# Altium footprint library HDR_fszhang.PcbLib: 116 footprints (part 2 of 8)
Each footprint in its own frame and in the unit in brackets; x right, y up, seen from the top. Pads: shape width x height; smd on the part's side, far side on the other; paste and mask are expansions set on the pad; w line width, h text height; cw(c..) or ccw(c..) is an arc to the next point about the centre after c.
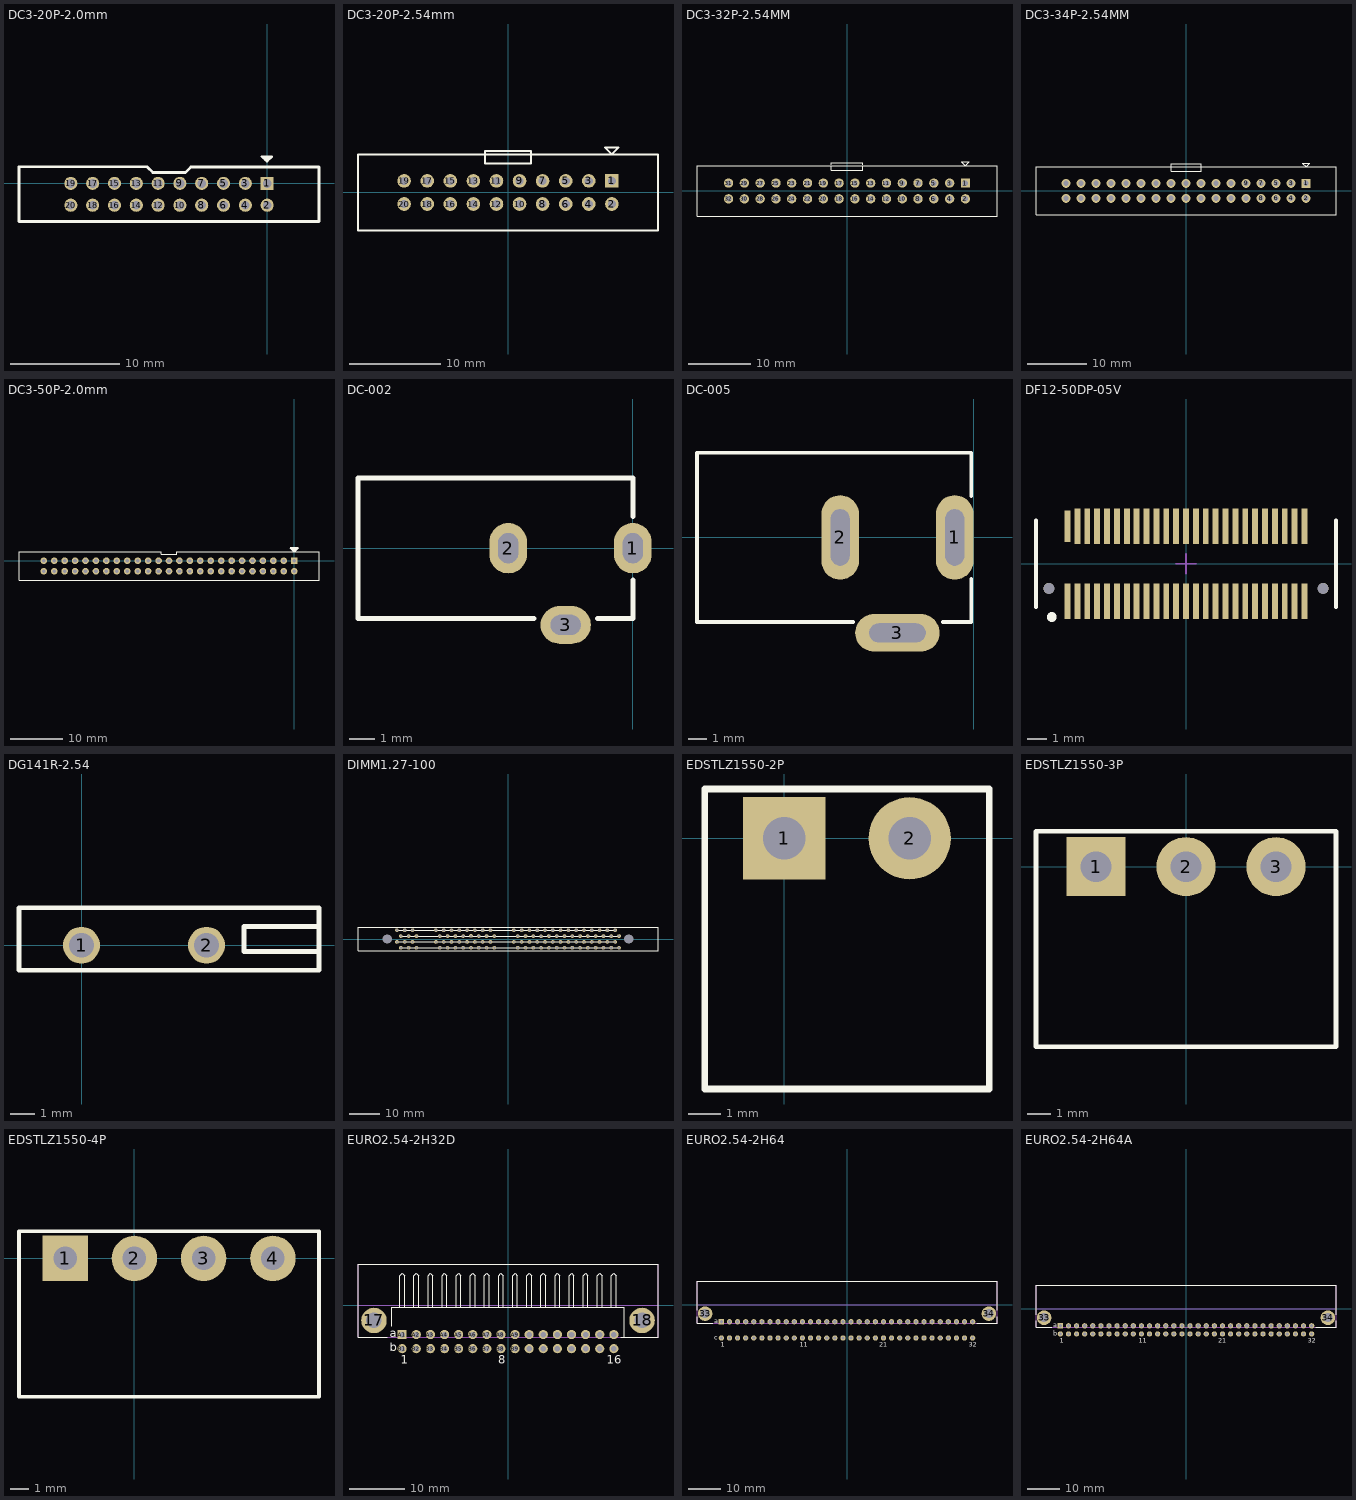
[diagram p1: the footprints below, top view; thin cyan lines are the x and y axes]

## DC3-20P-2.0mm [mm] "简易牛角座直"
pads (20):
  rect 1.2x1.2 hole 0.8: 1(-0.003,-0.008)
  round 1.2 hole 0.8: 2(-0.003,-2.008) 3(-2.003,-0.008) 4(-2.003,-2.008) 5(-4.003,-0.008) 6(-4.003,-2.008) 7(-6.003,-0.008) 8(-6.003,-2.008) 9(-8.003,-0.008) 10(-8.003,-2.008) 11(-10.003,-0.008) 12(-10.003,-2.008) 13(-12.003,-0.008) 14(-12.003,-2.008) 15(-14.003,-0.008) 16(-14.003,-2.008) 17(-16.003,-0.008) 18(-16.003,-2.008) 19(-18.003,-0.008) 20(-18.003,-2.008)
Top Overlay:
  lines w0.2: -0.315,2.279 0.231,2.279 0.245,2.266 -0.109,2.266 -0.205,2.169 -0.205,2.24 0.022,2.467 0.022,2.042 -0.003,2.017 ; -0.003,2.017 0.447,2.467 -0.303,2.467 -0.503,2.467 -0.053,2.017 -0.003,2.017
  lines w0.254: -22.753,1.492 -22.753,-3.508 4.747,-3.508 4.747,1.492 -7.003,1.492 -7.495,1.001 -10.487,1.001 -11.003,1.517 -22.753,1.517

## DC3-20P-2.54mm [mm] "简易牛角座直"
height 7
pads (20):
  rect 1.5x1.5 hole 0.9: 1(11.43,1.27)
  round 1.5 hole 0.9: 2(11.43,-1.27) 3(8.89,1.27) 4(8.89,-1.27) 5(6.35,1.27) 6(6.35,-1.27) 7(3.81,1.27) 8(3.81,-1.27) 9(1.27,1.27) 10(1.27,-1.27) 11(-1.27,1.27) 12(-1.27,-1.27) 13(-3.81,1.27) 14(-3.81,-1.27) 15(-6.35,1.27) 16(-6.35,-1.27) 17(-8.89,1.27) 18(-8.89,-1.27) 19(-11.43,1.27) 20(-11.43,-1.27)
Top Overlay:
  lines w0.2: -16.51,-4.191 -16.51,4.191 16.51,4.191 16.51,-4.191 -16.51,-4.191 ; -2.54,3.175 2.54,3.175 2.54,4.191 2.54,4.572 -2.54,4.572 -2.54,4.191 -2.54,3.175 ; 10.668,4.953 11.43,4.191 12.192,4.953 10.668,4.953

## DC3-32P-2.54MM [mm] "2.54简易牛角座"
height 1.2
pads (32):
  rect 1.5x1.5 hole 0.9: 1(19.05,1.27)
  round 1.5 hole 0.9: 2(19.05,-1.27) 3(16.51,1.27) 4(16.51,-1.27) 5(13.97,1.27) 6(13.97,-1.27) 7(11.43,1.27) 8(11.43,-1.27) 9(8.89,1.27) 10(8.89,-1.27) 11(6.35,1.27) 12(6.35,-1.27) 13(3.81,1.27) 14(3.81,-1.27) 15(1.27,1.27) 16(1.27,-1.27) 17(-1.27,1.27) 18(-1.27,-1.27) 19(-3.81,1.27) 20(-3.81,-1.27) 21(-6.35,1.27) 22(-6.35,-1.27) 23(-8.89,1.27) 24(-8.89,-1.27) 25(-11.43,1.27) 26(-11.43,-1.27) 27(-13.97,1.27) 28(-13.97,-1.27) 29(-16.51,1.27) 30(-16.51,-1.27) 31(-19.05,1.27) 32(-19.05,-1.27)
Top Overlay:
  lines w0.2: -2.54,4.064 -2.54,3.302 2.54,3.302 2.54,4.064 ; -2.54,4.191 -2.54,4.572 2.54,4.572 2.54,4.191 ; -24.13,-4.064 -24.13,4.064 24.13,4.064 24.13,-4.064 -24.13,-4.064 ; 18.415,4.699 19.558,4.699 19.685,4.699 19.05,4.064 18.415,4.699

## DC3-34P-2.54MM [mm] "2.54简易牛角座"
height 1.2
pads (34):
  rect 1.5x1.5 hole 0.9: 1(20.32,1.27)
  round 1.5 hole 0.9: 2(20.32,-1.27) 3(17.78,1.27) 4(17.78,-1.27) 5(15.24,1.27) 6(15.24,-1.27) 7(12.7,1.27) 8(12.7,-1.27) 9(10.16,1.27) 10(10.16,-1.27) 11(7.62,1.27) 12(7.62,-1.27) 13(5.08,1.27) 14(5.08,-1.27) 15(2.54,1.27) 16(2.54,-1.27) 17(0,1.27) 18(0,-1.27) 19(-2.54,1.27) 20(-2.54,-1.27) 21(-5.08,1.27) 22(-5.08,-1.27) 23(-7.62,1.27) 24(-7.62,-1.27) 25(-10.16,1.27) 26(-10.16,-1.27) 27(-12.7,1.27) 28(-12.7,-1.27) 29(-15.24,1.27) 30(-15.24,-1.27) 31(-17.78,1.27) 32(-17.78,-1.27) 33(-20.32,1.27) 34(-20.32,-1.27)
Top Overlay:
  lines w0.2: -2.54,3.81 -2.54,4.572 2.54,4.572 2.54,3.81 ; -2.54,4.064 -2.54,3.302 2.54,3.302 2.54,4.064 ; -25.4,-4.064 25.4,-4.064 25.4,4.064 -25.4,4.064 -25.4,-4.064 ; 19.685,4.699 20.32,4.064 20.955,4.699 20.828,4.699 19.685,4.699

## DC3-50P-2.0mm [mm] "简易牛角座直"
height 7
pads (50):
  rect 1.27x1.27 hole 0.711: 1(0,0)
  round 1.27 hole 0.711: 2(0,-2) 3(-2,0) 4(-2,-2) 5(-4,0) 6(-4,-2) 7(-6,0) 8(-6,-2) 9(-8,0) 10(-8,-2) 11(-10,0) 12(-10,-2) 13(-12,0) 14(-12,-2) 15(-14,0) 16(-14,-2) 17(-16,0) 18(-16,-2) 19(-18,0) 20(-18,-2) 21(-20,0) 22(-20,-2) 23(-22,0) 24(-22,-2) 25(-24,0) 26(-24,-2) 27(-26,0) 28(-26,-2) 29(-28,0) 30(-28,-2) 31(-30,0) 32(-30,-2) 33(-32,0) 34(-32,-2) 35(-34,0) 36(-34,-2) 37(-36,0) 38(-36,-2) 39(-38,0) 40(-38,-2) 41(-40,0) 42(-40,-2) 43(-42,0) 44(-42,-2) 45(-44,0) 46(-44,-2) 47(-46,0) 48(-46,-2) 49(-48,0) 50(-48,-2)
Top Overlay:
  lines w0.178: -52.75,-3.75 -52.75,1.75 -25.5,1.75 -25.5,1.25 -22.5,1.25 -22.5,1.75 4.75,1.75 4.75,-3.75 -52.75,-3.75
  lines w0.25: -0.25,2.25 0.25,2.25 0,2 ; -0.25,2.25 0,2 ; -0.25,2.25 -0.5,2.5 0.5,2.5 0,2 ; 0,1.75 0.75,2.5 -0.75,2.5 0,1.75 ; 0,1.75 0,2
Bottom Overlay:
  text "1" at 0,1.016 h0.64
  text "2" at 0,-3.556 h0.64
  text "9" at -8.128,1.016 h0.64
  text "10" at -8.128,-4.064 h0.64
  text "19" at -18.288,1.016 h0.64
  text "20" at -18.288,-4.064 h0.64
  text "29" at -27.94,1.016 h0.64
  text "30" at -27.94,-4.064 h0.64
  text "39" at -38.1,1.016 h0.64
  text "40" at -38.1,-4.064 h0.64
  text "49" at -48.26,1.016 h0.64
  text "50" at -48.26,-4.064 h0.64

## DC-002 [mm] "DC电源插座"
height 7.2
pads (3):
  oval 1.5x2 hole 0.8 slot 1.2 at 90 deg: 1(0,0) 2(-4.953,0)
  oval 2x1.5 hole 0.8 slot 1.2 at 0 deg: 3(-2.667,-3.048)
Top Overlay:
  lines w0.2: -3.937,-2.794 -10.922,-2.794 -10.922,2.794 0,2.794 0,1.27 ; -1.397,-2.794 0,-2.794 0,-1.27
3D body: height 7.2, standoff 0, extent -10.922,-2.794 0,2.794

## DC-005 [mm] "DC电源插座"
height 12.75
pads (3):
  oval 2x4.5 hole 1 slot 3 at 90 deg: 1(-1.016,0) 2(-7.112,0)
  oval 4.5x2 hole 1 slot 3 at 0 deg: 3(-4.064,-5.08)
Top Overlay:
  lines w0.2: -6.432,-4.5 -14.732,-4.5 -14.732,4.5 -0.132,4.5 -0.132,2.2 ; -1.651,-4.5 -0.132,-4.5 -0.132,-2.2
3D body: height 11.02, standoff -3.48, extent -14.588,-5.007 -0.762,4.499

## DF12-50DP-05V [mil] "B2B_0.5MM"
height 118.11
pads (52):
  rect 11.8x70.9 smd: 1(-236.2,-74.8) 3(-216.5,-74.8) 4(-216.5,74.8) 5(-196.9,-74.8) 6(-196.9,74.8) 7(-177.2,-74.8) 8(-177.2,74.8) 9(-157.5,-74.8) 10(-157.5,74.8) 11(-137.8,-74.8) 12(-137.8,74.8) 13(-118.1,-74.8) 14(-118.1,74.8) 15(-98.4,-74.8) 16(-98.4,74.8) 17(-78.7,-74.8) 18(-78.7,74.8) 19(-59.1,-74.8) 20(-59.1,74.8) 21(-39.4,-74.8) 22(-39.4,74.8) 23(-19.7,-74.8) 24(-19.7,74.8) 25(0,-74.8) 26(0,74.8) 27(19.7,-74.8) 28(19.7,74.8) 29(39.4,-74.8) 30(39.4,74.8) 31(59.1,-74.8) 32(59.1,74.8) 33(78.7,-74.8) 34(78.7,74.8) 35(98.4,-74.8) 36(98.4,74.8) 37(118.1,-74.8) 38(118.1,74.8) 39(137.8,-74.8) 40(137.8,74.8) 41(157.5,-74.8) 42(157.5,74.8) 43(177.2,-74.8) 44(177.2,74.8) 45(196.9,-74.8) 46(196.9,74.8) 47(216.5,-74.8) 48(216.5,74.8) 49(236.2,-74.8) 50(236.2,74.8)
  rect 11.8x62.99 smd: 2(-236.2,74.8)
  round 21.7 hole 21.7: " "(-273.6,-49.2) " "(273.6,-49.2)
Top Overlay:
  circle w9.8: c-267.7,-106.3 r4.9
  lines w7.9: -299.2,-86.6 -299.2,86.6 ; 299.2,-86.6 299.2,86.6
Mechanical 15:
  lines w3.94: -19.69,0 19.68,0 ; 0,-19.68 0,19.69

## DG141R-2.54 [mm] "接线端子"
pads (2):
  round 1.5 hole 1: 1(0,0) 2(5.08,0)
Top Overlay:
  lines w0.2: 9.652,-0.254 6.604,-0.254 6.604,0.762 9.652,0.762 ; -2.54,-1.016 9.652,-1.016 9.652,1.524 -2.54,1.524 -2.54,-1.016

## DIMM1.27-100 [mm]
height 5
pads (102):
  round 1.2 hole 0.7: 1(-36.195,-0.953) 2(-34.925,-2.857) 3(-33.655,-0.953) 4(-32.385,-2.857) 5(-31.115,-0.953) 6(-29.845,-2.857) 7(-23.495,-0.953) 8(-22.225,-2.857) 9(-20.955,-0.953) 10(-19.685,-2.857) 11(-18.415,-0.953) 12(-17.145,-2.857) 13(-15.875,-0.953) 14(-14.605,-2.857) 15(-13.335,-0.953) 16(-12.065,-2.857) 17(-10.795,-0.953) 18(-9.525,-2.857) 19(-8.255,-0.953) 20(-6.985,-2.857) 21(-5.715,-0.953) 22(-4.445,-2.857) 23(1.905,-0.953) 24(3.175,-2.857) 25(4.445,-0.953) 26(5.715,-2.857) 27(6.985,-0.953) 28(8.255,-2.857) 29(9.525,-0.953) 30(10.795,-2.857) 31(12.065,-0.953) 32(13.335,-2.857) 33(14.605,-0.953) 34(15.875,-2.857) 35(17.145,-0.953) 36(18.415,-2.857) 37(19.685,-0.953) 38(20.955,-2.857) 39(22.225,-0.953) 40(23.495,-2.857) 41(24.765,-0.953) 42(26.035,-2.857) 43(27.305,-0.953) 44(28.575,-2.857) 45(29.845,-0.953) 46(31.115,-2.857) 47(32.385,-0.953) 48(33.655,-2.857) 49(34.925,-0.953) 50(36.195,-2.857) 51(-36.195,2.857) 52(-34.925,0.953) 53(-33.655,2.857) 54(-32.385,0.953) 55(-31.115,2.857) 56(-29.845,0.953) 57(-23.495,2.857) 58(-22.225,0.953) 59(-20.955,2.857) 60(-19.685,0.953) 61(-18.415,2.857) 62(-17.145,0.953) 63(-15.875,2.857) 64(-14.605,0.953) 65(-13.335,2.857) 66(-12.065,1.016) 67(-10.795,2.857) 68(-9.525,0.953) 69(-8.255,2.857) 70(-6.985,0.953) 71(-5.715,2.857) 72(-4.445,0.953) 73(1.905,2.857) 74(3.175,0.953) 75(4.445,2.857) 76(5.715,0.953) 77(6.985,2.857) 78(8.255,0.953) 79(9.525,2.857) 80(10.795,0.889) 81(12.065,2.857) 82(13.335,0.953) 83(14.605,2.857) 84(15.875,0.953) 85(17.145,2.857) 86(18.415,0.953) 87(19.685,2.857) 88(20.955,0.953) 89(22.225,2.857) 90(23.495,0.953) 91(24.765,2.857) 92(26.035,0.953) 93(27.305,2.857) 94(28.575,0.953) 95(29.845,2.857) 96(31.115,0.953) 97(32.385,2.857) 98(33.655,0.953) 99(34.925,2.857) 100(36.195,0.953)
  round 1.5 hole 3: 101(-39.37,0) 102(39.37,0)
Top Overlay:
  lines w0.2: -36.195,-0.953 34.925,-0.953 ; -36.195,2.857 34.925,2.857 ; -34.925,-2.857 36.195,-2.857 ; -34.925,0.953 36.195,0.953 ; -48.895,-3.81 48.895,-3.81 48.895,3.81 -48.895,3.81 -48.895,-3.81

## EDSTLZ1550-2P [mm] "3.81mm接插件"
height 7
pads (2):
  rect 2.5x2.5 hole 1.3: 1(0,0)
  round 2.5 hole 1.3: 2(3.81,0)
Top Overlay:
  lines w0.2: -2.413,-7.62 6.223,-7.62 6.223,1.5 -2.413,1.5 -2.413,-7.62
3D body: height 5, standoff 0, extent -2.413,-7.62 6.223,1.397

## EDSTLZ1550-3P [mm] "3.81mm接插件"
height 7
pads (3):
  rect 2.5x2.5 hole 1.3: 1(-3.81,0)
  round 2.5 hole 1.3: 2(0,0) 3(3.81,0)
Top Overlay:
  lines w0.2: -6.35,-7.62 6.35,-7.62 6.35,1.5 -6.35,1.5 -6.35,-7.62
3D body: height 6, standoff 0, extent -6.35,-7.62 6.35,1.397

## EDSTLZ1550-4P [mm] "3.81mm接插件"
height 7
pads (4):
  rect 2.5x2.5 hole 1.3: 1(-3.81,0)
  round 2.5 hole 1.3: 2(0,0) 3(3.81,0) 4(7.62,0)
Top Overlay:
  lines w0.2: -6.35,-7.62 -6.35,1.5 10.16,1.5 10.16,-7.62 -6.35,-7.62
3D body: height 6, standoff 0, extent -6.35,-7.62 10.16,1.5

## EURO2.54-2H32D [mm] "Connector; DIN 41612, Type 2B, Thru-Hole; Rows a+b, 32 Position; Right Angle"
height 8.6
pads (34):
  round 4.6 hole 2.8: 17(-24.13,-2.76) 18(24.13,-2.76)
  rect 1.65x1.65 hole 1: A1(-19.05,-5.3)
  round 1.65 hole 1: A2(-16.51,-5.3) A3(-13.97,-5.3) A4(-11.43,-5.3) A5(-8.89,-5.3) A6(-6.35,-5.3) A7(-3.81,-5.3) A8(-1.27,-5.3) A9(1.27,-5.3) A10(3.81,-5.3) A11(6.35,-5.3) A12(8.89,-5.3) A13(11.43,-5.3) A14(13.97,-5.3) A15(16.51,-5.3) A16(19.05,-5.3) B1(-19.05,-7.84) B2(-16.51,-7.84) B3(-13.97,-7.84) B4(-11.43,-7.84) B5(-8.89,-7.84) B6(-6.35,-7.84) B7(-3.81,-7.84) B8(-1.27,-7.84) B9(1.27,-7.84) B10(3.81,-7.84) B11(6.35,-7.84) B12(8.89,-7.84) B13(11.43,-7.84) B14(13.97,-7.84) B15(16.51,-7.84) B16(19.05,-7.84)
Top Overlay:
  lines w0.2: -21.75,-5.8 -27,-5.8 -27,7.34 27,7.34 27,-5.8 20.275,-5.8 ; -20.955,-3.81 -20.955,-0.381 20.955,-0.381 20.955,-5.8 ; -19.473,-0.288 -19.473,5.299 -19.05,5.722 -18.627,5.299 -18.627,-0.288 ; -16.933,-0.288 -16.933,5.299 -16.51,5.722 -16.087,5.299 -16.087,-0.288 ; -14.393,-0.288 -14.393,5.299 -13.97,5.722 -13.547,5.299 -13.547,-0.288 ; -11.853,-0.288 -11.853,5.299 -11.43,5.722 -11.007,5.299 -11.007,-0.288 ; -9.313,-0.288 -9.313,5.299 -8.89,5.722 -8.467,5.299 -8.467,-0.288 ; -6.773,-0.288 -6.773,5.299 -6.35,5.722 -5.927,5.299 -5.927,-0.288 ; -4.233,-0.288 -4.233,5.299 -3.81,5.722 -3.387,5.299 -3.387,-0.288 ; -1.693,-0.288 -1.693,5.299 -1.27,5.722 -0.847,5.299 -0.847,-0.288 ; 0.847,-0.288 0.847,5.299 1.27,5.722 1.693,5.299 1.693,-0.288 ; 3.387,-0.288 3.387,5.299 3.81,5.722 4.233,5.299 4.233,-0.288 ; 5.927,-0.288 5.927,5.299 6.35,5.722 6.773,5.299 6.773,-0.288 ; 8.467,-0.288 8.467,5.299 8.89,5.722 9.313,5.299 9.313,-0.288 ; 11.007,-0.288 11.007,5.299 11.43,5.722 11.853,5.299 11.853,-0.288 ; 13.547,-0.288 13.547,5.299 13.97,5.722 14.393,5.299 14.393,-0.288 ; 16.087,-0.288 16.087,5.299 16.51,5.722 16.933,5.299 16.933,-0.288 ; 18.627,-0.288 18.627,5.299 19.05,5.722 19.473,5.299 19.473,-0.288
  text "16" at 17.8,-10.54 h1.5
  text "8" at -1.77,-10.54 h1.5
  text "b" at -21.26,-8.34 h1.5
  text "a" at -21.26,-5.8 h1.5
  text "1" at -19.3,-10.54 h1.5
Mechanical 1:
  lines w0.1: -27,0 27,0
  text "PCB Edge" at -26.15,0.5 h0.6
Mechanical 13:
  lines w0.1: -27,-5.8 27,-5.8 27,7.34 -27,7.34 -27,-5.8
3D body: height 8.6, standoff 0, extent -27,-5.8 27,7.34

## EURO2.54-2H64 [mm] "Connector; DIN 41612, Type C, Thru-Hole; Rows a+c, 64 Position; Right Angle"
height 11.1
pads (66):
  round 4.6 hole 2.8: 33(-44.45,-2.76) 34(44.45,-2.76)
  rect 1.65x1.65 hole 1: A1(-39.37,-5.3)
  round 1.65 hole 1: A2(-36.83,-5.3) A3(-34.29,-5.3) A4(-31.75,-5.3) A5(-29.21,-5.3) A6(-26.67,-5.3) A7(-24.13,-5.3) A8(-21.59,-5.3) A9(-19.05,-5.3) A10(-16.51,-5.3) A11(-13.97,-5.3) A12(-11.43,-5.3) A13(-8.89,-5.3) A14(-6.35,-5.3) A15(-3.81,-5.3) A16(-1.27,-5.3) A17(1.27,-5.3) A18(3.81,-5.3) A19(6.35,-5.3) A20(8.89,-5.3) A21(11.43,-5.3) A22(13.97,-5.3) A23(16.51,-5.3) A24(19.05,-5.3) A25(21.59,-5.3) A26(24.13,-5.3) A27(26.67,-5.3) A28(29.21,-5.3) A29(31.75,-5.3) A30(34.29,-5.3) A31(36.83,-5.3) A32(39.37,-5.3) C1(-39.37,-10.38) C2(-36.83,-10.38) C3(-34.29,-10.38) C4(-31.75,-10.38) C5(-29.21,-10.38) C6(-26.67,-10.38) C7(-24.13,-10.38) C8(-21.59,-10.38) C9(-19.05,-10.38) C10(-16.51,-10.38) C11(-13.97,-10.38) C12(-11.43,-10.38) C13(-8.89,-10.38) C14(-6.35,-10.38) C15(-3.81,-10.38) C16(-1.27,-10.38) C17(1.27,-10.38) C18(3.81,-10.38) C19(6.35,-10.38) C20(8.89,-10.38) C21(11.43,-10.38) C22(13.97,-10.38) C23(16.51,-10.38) C24(19.05,-10.38) C25(21.59,-10.38) C26(24.13,-10.38) C27(26.67,-10.38) C28(29.21,-10.38) C29(31.75,-10.38) C30(34.29,-10.38) C31(36.83,-10.38) C32(39.37,-10.38)
Top Overlay:
  lines w0.2: -47,-3.76 -47,-5.8 -42.07,-5.8 ; -47,-1.76 -47,7.34 47,7.34 47,-1.76 ; 40.595,-5.8 47,-5.8 47,-3.76
  text "21" at 10.18,-13.08 h1.5
  text "11" at -14.845,-13.08 h1.5
  text "32" at 38.12,-13.08 h1.5
  text "c" at -41.58,-10.88 h1.5
  text "a" at -41.58,-5.8 h1.5
  text "1" at -39.62,-13.08 h1.5
Mechanical 1:
  lines w0.1: -47,0 47,0
  text "PCB Edge" at -46.47,0.5 h0.6
Mechanical 13:
  lines w0.1: -47,-5.8 47,-5.8 47,7.34 -47,7.34 -47,-5.8
3D body: height 11.1, standoff 0, extent -47,-5.8 47,7.34

## EURO2.54-2H64A [mm] "Connector; DIN 41612, Type B, Thru-Hole; Rows a+b, 64 Position; Right Angle"
height 8.6
pads (66):
  round 4.6 hole 2.8: 33(-44.45,-2.76) 34(44.45,-2.76)
  rect 1.65x1.65 hole 1: A1(-39.37,-5.3)
  round 1.65 hole 1: A2(-36.83,-5.3) A3(-34.29,-5.3) A4(-31.75,-5.3) A5(-29.21,-5.3) A6(-26.67,-5.3) A7(-24.13,-5.3) A8(-21.59,-5.3) A9(-19.05,-5.3) A10(-16.51,-5.3) A11(-13.97,-5.3) A12(-11.43,-5.3) A13(-8.89,-5.3) A14(-6.35,-5.3) A15(-3.81,-5.3) A16(-1.27,-5.3) A17(1.27,-5.3) A18(3.81,-5.3) A19(6.35,-5.3) A20(8.89,-5.3) A21(11.43,-5.3) A22(13.97,-5.3) A23(16.51,-5.3) A24(19.05,-5.3) A25(21.59,-5.3) A26(24.13,-5.3) A27(26.67,-5.3) A28(29.21,-5.3) A29(31.75,-5.3) A30(34.29,-5.3) A31(36.83,-5.3) A32(39.37,-5.3) B1(-39.37,-7.84) B2(-36.83,-7.84) B3(-34.29,-7.84) B4(-31.75,-7.84) B5(-29.21,-7.84) B6(-26.67,-7.84) B7(-24.13,-7.84) B8(-21.59,-7.84) B9(-19.05,-7.84) B10(-16.51,-7.84) B11(-13.97,-7.84) B12(-11.43,-7.84) B13(-8.89,-7.84) B14(-6.35,-7.84) B15(-3.81,-7.84) B16(-1.27,-7.84) B17(1.27,-7.84) B18(3.81,-7.84) B19(6.35,-7.84) B20(8.89,-7.84) B21(11.43,-7.84) B22(13.97,-7.84) B23(16.51,-7.84) B24(19.05,-7.84) B25(21.59,-7.84) B26(24.13,-7.84) B27(26.67,-7.84) B28(29.21,-7.84) B29(31.75,-7.84) B30(34.29,-7.84) B31(36.83,-7.84) B32(39.37,-7.84)
Top Overlay:
  lines w0.2: -47,-3.76 -47,-5.8 -42.07,-5.8 ; -47,-1.76 -47,7.34 47,7.34 47,-1.76 ; 40.595,-5.8 47,-5.8 47,-3.76
  text "1" at -39.62,-10.54 h1.5
  text "a" at -41.58,-5.8 h1.5
  text "b" at -41.58,-8.34 h1.5
  text "32" at 38.12,-10.54 h1.5
  text "11" at -14.845,-10.54 h1.5
  text "21" at 10.18,-10.54 h1.5
Mechanical 1:
  lines w0.1: -47,0 47,0
  text "PCB Edge" at -46.47,0.5 h0.6
Mechanical 13:
  lines w0.1: -47,-5.8 -47,7.34 47,7.34 47,-5.8 -47,-5.8
3D body: height 8.6, standoff 0, extent -47,-5.8 47,7.34